# EAGLE library part ML4624CQ (library opto-micro-linear)
FIBER OPTIC DATA QUANTIZER
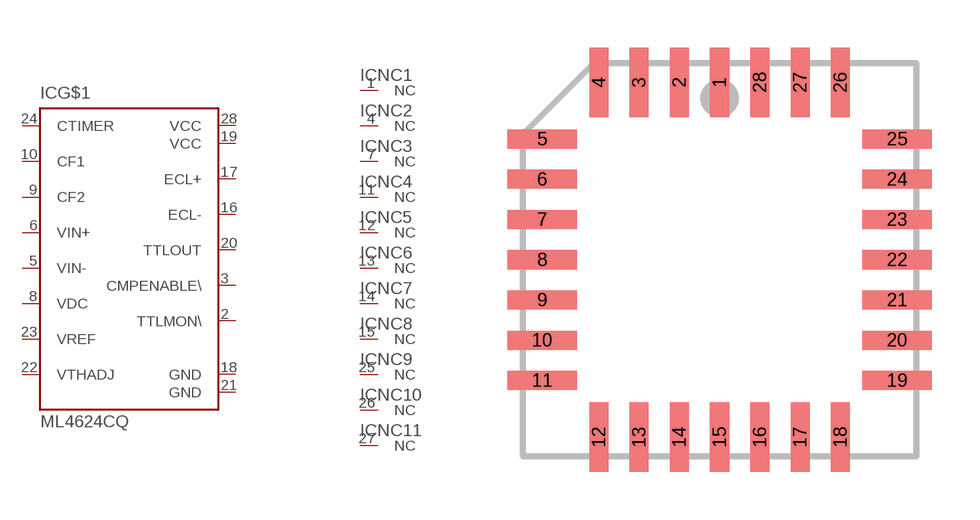
[diagram p3: symbol with the pads of PLCC28S; footprint PLCC28S]

Designator prefix IC; gates G$1=ML4624 NC1=NC NC2=NC NC3=NC NC4=NC NC5=NC NC6=NC NC7=NC NC8=NC NC9=NC NC10=NC NC11=NC

## ML4624CQ  [PLCC28S]
1  NC1:NC  nc
2  G$1:TTLMON\  out
3  G$1:CMPENABLE\  in
4  NC2:NC  nc
5  G$1:VIN-  in
6  G$1:VIN+  in
7  NC3:NC  nc
8  G$1:VDC  pas
9  G$1:CF2  pas
10  G$1:CF1  pas
11  NC4:NC  nc
12  NC5:NC  nc
13  NC6:NC  nc
14  NC7:NC  nc
15  NC8:NC  nc
16  G$1:ECL-  out
17  G$1:ECL+  out
18  G$1:GND  pwr
19  G$1:VCC  pwr
20  G$1:TTLOUT  out
21  G$1:GND  pwr
22  G$1:VTHADJ  in
23  G$1:VREF  in
24  G$1:CTIMER  pas
25  NC9:NC  nc
26  NC10:NC  nc
27  NC11:NC  nc
28  G$1:VCC  pwr

## Footprint PLCC28S (pad centres in mm)
Plastic Leaded Chip Carrier square
smd 0.6 x 2.2: 1 0,5.6; 2 -1.27,5.6; 3 -2.54,5.6; 4 -3.81,5.6; 12 -3.81,-5.6; 13 -2.54,-5.6; 14 -1.27,-5.6; 15 0,-5.6; 16 1.27,-5.6; 17 2.54,-5.6; 18 3.81,-5.6; 26 3.81,5.6; 27 2.54,5.6; 28 1.27,5.6
smd 2.2 x 0.6: 5 -5.6,3.81; 6 -5.6,2.54; 7 -5.6,1.27; 8 -5.6,0; 9 -5.6,-1.27; 10 -5.6,-2.54; 11 -5.6,-3.81; 19 5.6,-3.81; 20 5.6,-2.54; 21 5.6,-1.27; 22 5.6,0; 23 5.6,1.27; 24 5.6,2.54; 25 5.6,3.81